# Altium footprint library MSS120004 .PcbLib: 1 footprints
Each footprint in its own frame and in the unit in brackets; x right, y up, seen from the top. Pads: shape width x height; smd on the part's side, far side on the other; paste and mask are expansions set on the pad; w line width, h text height; cw(c..) or ccw(c..) is an arc to the next point about the centre after c.
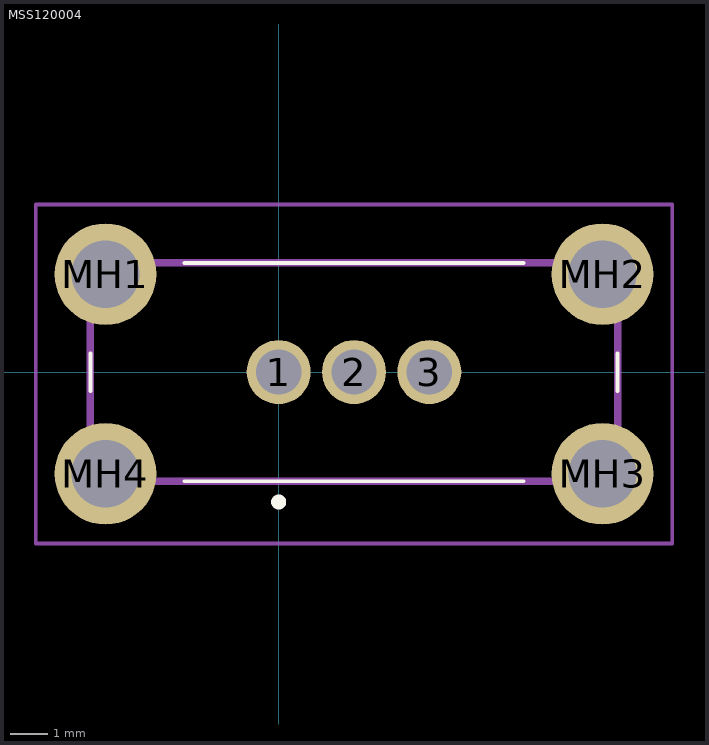
[diagram p0: the footprint, top view; thin cyan lines are the x and y axes]

## MSS120004 [mm]
pads (7):
  round 1.7 hole 1.2: 1(0,0) 2(2,0) 3(4,0)
  round 2.7 hole 1.8: MH1(-4.6,2.6) MH2(8.6,2.6) MH3(8.6,-2.7) MH4(-4.6,-2.7)
Top Overlay:
  lines w0.1: -5,-0.5 -5,0.5 ; -2.5,-2.9 6.5,-2.9 ; -2.5,2.9 6.5,2.9 ; 9,-0.5 9,0.5
  lines w0.2: -0.1,-3.45 ccw(c0,-3.45) 0.1,-3.45 ccw(c0,-3.45) -0.1,-3.45
Mechanical 13:
  lines w0.2: -5,-2.9 9,-2.9 9,2.9 -5,2.9 -5,-2.9
Mechanical 15:
  lines w0.1: -6.45,-4.55 10.45,-4.55 10.45,4.45 -6.45,4.45 -6.45,-4.55
3D body "MSS120004.stp": height 15.1, standoff -5, extent -5.394,-3.498 9.4,3.398